# Altium integrated library MTSW-109-22-G-S-440.IntLib: 1 symbol
Pins are listed as number, name and electrical type; pins without a type are passive.

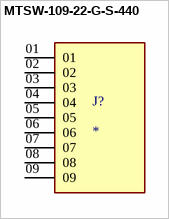
[diagram p0: symbol MTSW-109-22-G-S-440]

## MTSW-109-22-G-S-440
designator J?
MP: MTSW-109-22-G-S-440; Availability: Unavailable; Package: None; Price: None; Value: *
footprint SAMTEC_MTSW-109-22-G-S-440
pins: 01, 02, 03, 04, 05, 06, 07, 08, 09